# Altium footprint library RLC.PcbLib: 144 footprints (part 7 of 9)
Each footprint in its own frame and in the unit in brackets; x right, y up, seen from the top. Pads: shape width x height; smd on the part's side, far side on the other; paste and mask are expansions set on the pad; w line width, h text height; cw(c..) or ccw(c..) is an arc to the next point about the centre after c.
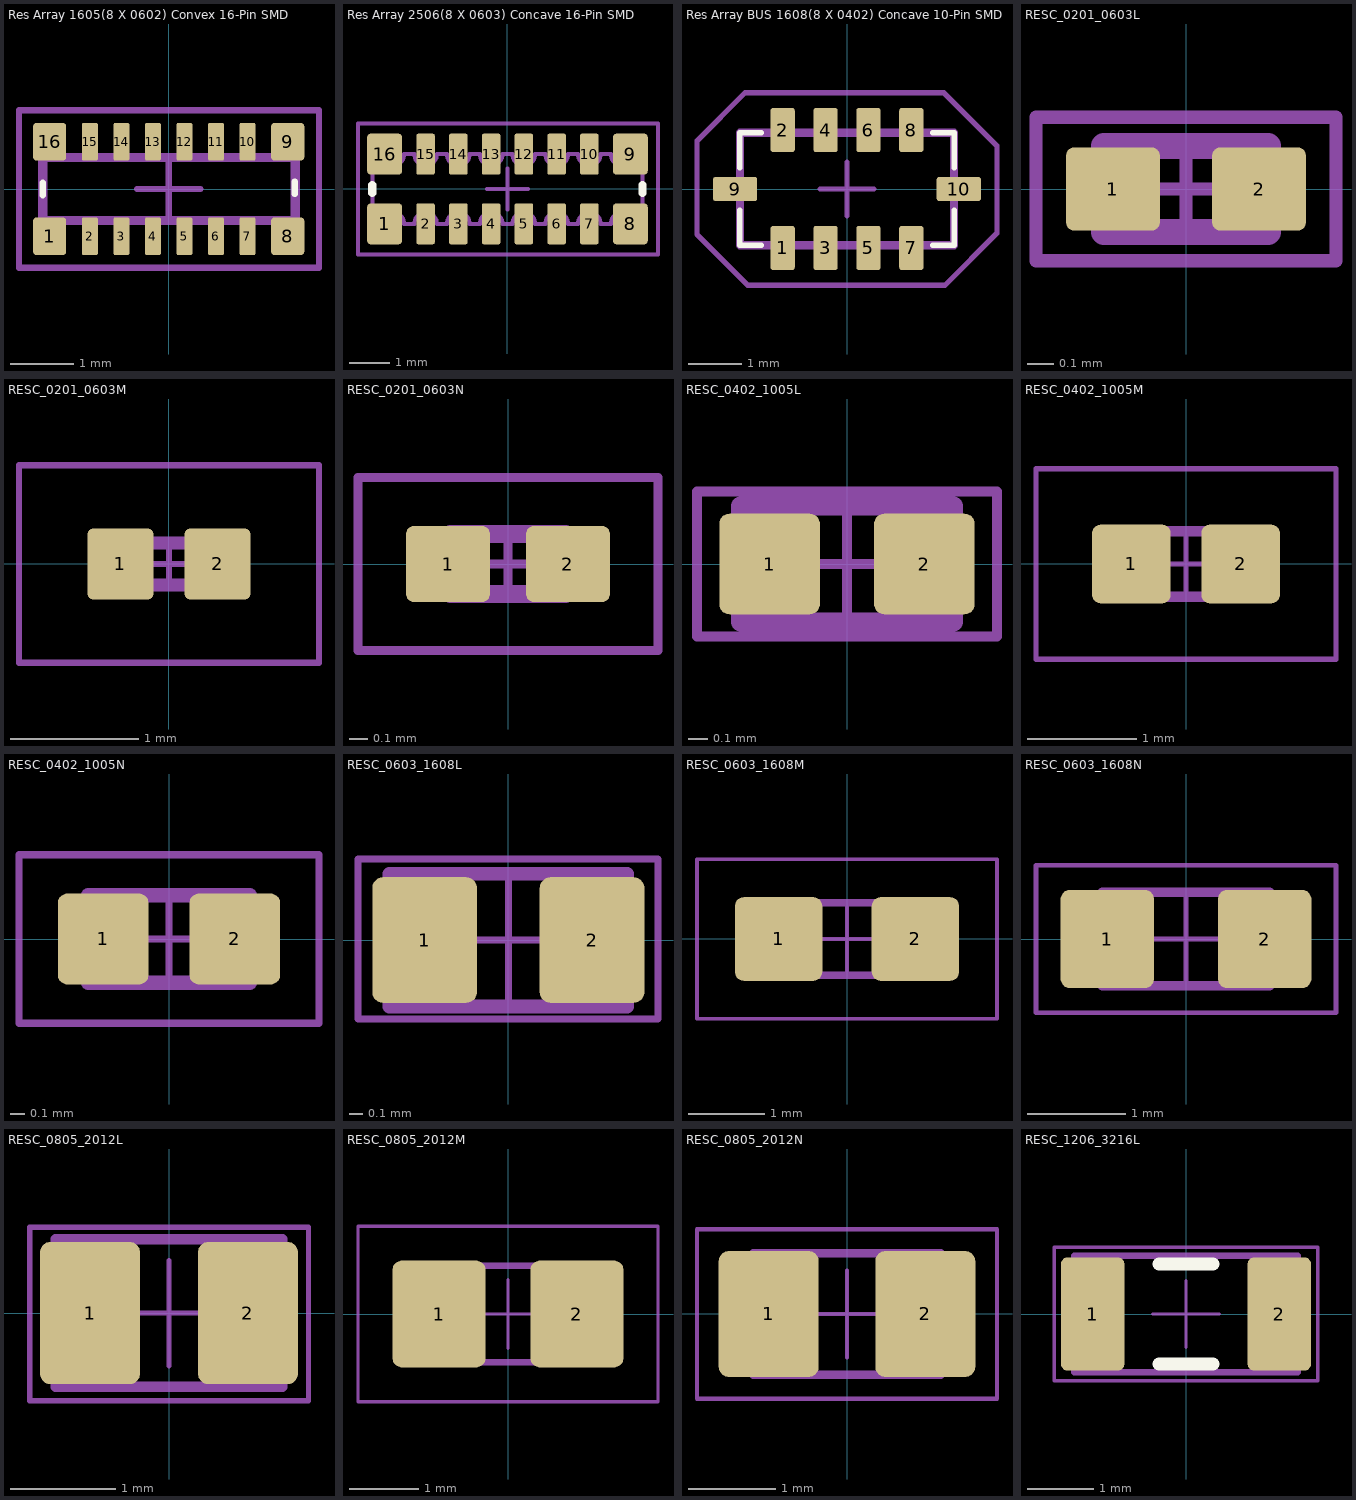
[diagram p6: the footprints below, top view; thin cyan lines are the x and y axes]

## Res Array 1605(8 X 0602) Convex 16-Pin SMD [mm]
pads (16):
  rrect20% 0.525x0.6 smd: 1(-1.888,-0.75) 8(1.888,-0.75) 9(1.888,0.75) 16(-1.888,0.75)
  rrect20% 0.25x0.6 smd: 2(-1.25,-0.75) 3(-0.75,-0.75) 4(-0.25,-0.75) 5(0.25,-0.75) 6(0.75,-0.75) 7(1.25,-0.75) 10(1.25,0.75) 11(0.75,0.75) 12(0.25,0.75) 13(-0.25,0.75) 14(-0.75,0.75) 15(-1.25,0.75)
Top Overlay:
  lines w0.1: -2,-0.1 -2,0.1 ; 1.998,-0.081 1.998,0.119
Top Designator:
  text ".Designator" at -2.749,1.55 h0.6
Top Assembly:
  lines w0.15: -2,-0.5 -2,0.5 2.007,0.5 2.007,-0.5 -2,-0.5
Top Courtyard:
  lines w0.1: -0.5,0 0.5,0 ; 0,-0.5 0,0.5 ; -2.375,-1.25 -2.375,1.25 2.385,1.25 2.385,-1.25 -2.375,-1.25
3D body "EXB-2HV103JV.stp": height 0.55, standoff 0, extent -1.95,-0.9 1.95,0.9

## Res Array 2506(8 X 0603) Concave 16-Pin SMD [mm] "Chip Array, Concave, 16-Leads, Pitch 0,80mm,  Body 4,90x1,60mm,  IPC Medium Density"
height 0.6
pads (16):
  rrect20% 0.85x1 smd: 1(-3,-0.85) 8(3,-0.85) 9(3,0.85) 16(-3,0.85)
  rrect20% 0.45x1 smd: 2(-2,-0.85) 3(-1.2,-0.85) 4(-0.4,-0.85) 5(0.4,-0.85) 6(1.2,-0.85) 7(2,-0.85) 10(2,0.85) 11(1.2,0.85) 12(0.4,0.85) 13(-0.4,0.85) 14(-1.2,0.85) 15(-2,0.85)
Top Overlay:
  lines w0.2: -3.3,-0.1 -3.3,0.1 ; 3.3,-0.1 3.3,0.1
Sheet:
  lines w0.05: -3.65,-1.6 3.675,-1.6 3.675,1.6 -3.65,1.6 -3.65,-1.6
Top Designator:
  text ".Designator" at -2.999,2.05 h0.6
Top Assembly:
  lines w0.1: -3.3,-0.85 -3.075,-0.85 cw(c-2.8,-0.85) -2.525,-0.85 -2.275,-0.85 cw(c-2,-0.85) -1.725,-0.85 -1.475,-0.85 cw(c-1.2,-0.85) -0.925,-0.85 -0.675,-0.85 cw(c-0.4,-0.85) -0.125,-0.85 0.125,-0.85 cw(c0.4,-0.85) 0.675,-0.85 0.925,-0.85 cw(c1.2,-0.85) 1.475,-0.85 1.725,-0.85 cw(c2,-0.85) 2.275,-0.85 2.525,-0.85 cw(c2.8,-0.85) 3.075,-0.85 3.3,-0.85 3.3,0.85 3.075,0.85 cw(c2.8,0.85) 2.525,0.85 2.275,0.85 cw(c2,0.85) 1.725,0.85 1.475,0.85 cw(c1.2,0.85) 0.925,0.85 0.675,0.85 cw(c0.4,0.85) 0.125,0.85 -0.125,0.85 cw(c-0.4,0.85) -0.675,0.85 -0.925,0.85 cw(c-1.2,0.85) -1.475,0.85 -1.725,0.85 cw(c-2,0.85) -2.275,0.85 -2.525,0.85 cw(c-2.8,0.85) -3.075,0.85 -3.3,0.85 -3.3,-0.85
Top Courtyard:
  lines w0.1: -0.5,0 0.5,0 ; 0,-0.5 0,0.5 ; -3.65,-1.6 -3.65,1.6 3.675,1.6 3.675,-1.6 -3.65,-1.6
3D body "CAC-80P489X159-16N.step": height 0.6, standoff 0, extent -3.3,-0.95 3.3,0.95

## Res Array BUS 1608(8 X 0402) Concave 10-Pin SMD [mm]
pads (10):
  rrect20% 0.45x0.825 smd: 1(-1.2,-1.1) 2(-1.2,1.1) 3(-0.4,-1.1) 4(-0.4,1.1) 5(0.4,-1.1) 6(0.4,1.1) 7(1.2,-1.1) 8(1.2,1.1)
  rrect20% 0.825x0.45 smd: 9(-2.088,0) 10(2.087,0)
Top Overlay:
  lines w0.1: -2,-0.4 -2,-1.05 -1.6,-1.05 ; -2,0.4 -2,1.05 -1.6,1.05 ; 1.6,-1.05 2,-1.05 2,-0.4 ; 1.6,1.05 2,1.05 2,0.4
Top Designator:
  text ".Designator" at -3.024,2.2 h0.6
Top Assembly:
  lines w0.15: -2,-1.05 2,-1.05 2,1.05 -2,1.05 -2,-1.05
Top Courtyard:
  lines w0.1: -0.5,0 0.5,0 ; 0,-0.5 0,0.5 ; -2.8,-0.85 -1.85,-1.8 1.825,-1.8 2.8,-0.825 2.8,0.805 1.805,1.8 -1.899,1.8 -2.8,0.899 -2.8,-0.85
3D body "Resnet_Bournes_CAT25 .step": height 0.55, standoff 0, extent -2.012,-1.014 2.009,1.006

## RESC_0201_0603L [mm] "Chip Resistor, Body 0.6x0.3mm, IPC High Density"
height 0.3
pads (2):
  rrect20% 0.36x0.32 smd: 1(-0.28,0) 2(0.28,0)
Top Designator:
  text ".Designator" at -2.899,0.6 h0.6
Top Assembly:
  lines w0.1: -0.315,-0.165 0.315,-0.165 0.315,0.165 -0.315,0.165 -0.315,-0.165
Top Courtyard:
  lines w0.05: -0.165,0 0.165,0 ; 0,-0.165 0,0.165 ; -0.575,-0.275 0.575,-0.275 0.575,0.275 -0.575,0.275 -0.575,-0.275
3D body "rsmd-0201_l0-6_w0-3_h0-25.stp": height 0.25, standoff 0, extent -0.3,-0.15 0.3,0.15

## RESC_0201_0603M [mm] "Chip Resistor, Body 0.6x0.3mm, IPC Low Density"
height 0.3
pads (2):
  rrect20% 0.52x0.56 smd: 1(-0.38,0) 2(0.38,0)
Top Designator:
  text ".Designator" at -2.899,1.1 h0.6
Top Assembly:
  lines w0.1: -0.315,-0.165 0.315,-0.165 0.315,0.165 -0.315,0.165 -0.315,-0.165
Top Courtyard:
  lines w0.05: -0.165,0 0.165,0 ; 0,-0.165 0,0.165 ; -1.175,-0.775 1.175,-0.775 1.175,0.775 -1.175,0.775 -1.175,-0.775
3D body "rsmd-0201_l0-6_w0-3_h0-25.stp": height 0.25, standoff 0, extent -0.3,-0.15 0.3,0.15

## RESC_0201_0603N [mm] "Chip Resistor, Body 0.6x0.3mm, IPC Medium Density"
height 0.3
pads (2):
  rrect20% 0.46x0.42 smd: 1(-0.33,0) 2(0.33,0)
Top Designator:
  text ".Designator" at -2.799,0.8 h0.6
Top Assembly:
  lines w0.1: -0.315,-0.165 -0.315,0.165 0.315,0.165 0.315,-0.165 -0.315,-0.165
Top Courtyard:
  lines w0.05: -0.165,0 0.165,0 ; 0,-0.165 0,0.165 ; -0.825,-0.475 -0.825,0.475 0.825,0.475 0.825,-0.475 -0.825,-0.475
3D body "rsmd-0201_l0-6_w0-3_h0-25.stp": height 0.25, standoff 0, extent -0.3,-0.15 0.3,0.15

## RESC_0402_1005L [mm] "Chip Resistor, Body 1.1x0.5mm, IPC High Density"
height 0.4
pads (2):
  rrect20% 0.52x0.52 smd: 1(-0.4,0) 2(0.4,0)
Top Designator:
  text ".Designator" at -2.799,0.7 h0.6
Top Assembly:
  lines w0.1: -0.55,-0.3 -0.55,0.3 0.55,0.3 0.55,-0.3 -0.55,-0.3
Top Courtyard:
  lines w0.05: -0.3,0 0.3,0 ; 0,-0.3 0,0.3 ; -0.775,-0.375 -0.775,0.375 0.775,0.375 0.775,-0.375 -0.775,-0.375
3D body "Resistor_0402_Text.step": height 0.37, standoff 0.01, extent -0.504,-0.257 0.512,0.251

## RESC_0402_1005M [mm] "Chip Resistor, Body 1.1x0.5mm, IPC Low Density"
height 0.4
pads (2):
  rrect20% 0.72x0.72 smd: 1(-0.5,0) 2(0.5,0)
Top Designator:
  text ".Designator" at -2.799,1.2 h0.6
Top Assembly:
  lines w0.1: -0.55,-0.3 0.55,-0.3 0.55,0.3 -0.55,0.3 -0.55,-0.3
Top Courtyard:
  lines w0.05: -0.3,0 0.3,0 ; 0,-0.3 0,0.3 ; -1.375,-0.875 1.375,-0.875 1.375,0.875 -1.375,0.875 -1.375,-0.875
3D body "Resistor_0402_Text.step": height 0.37, standoff 0.01, extent -0.51,-0.261 0.506,0.247

## RESC_0402_1005N [mm] "Chip Resistor, Body 1.1x0.5mm, IPC Medium Density"
height 0.4
pads (2):
  rrect20% 0.62x0.62 smd: 1(-0.45,0) 2(0.45,0)
Top Designator:
  text ".Designator" at -2.799,0.9 h0.6
Top Assembly:
  lines w0.1: -0.55,-0.3 0.55,-0.3 0.55,0.3 -0.55,0.3 -0.55,-0.3
Top Courtyard:
  lines w0.05: -0.3,0 0.3,0 ; 0,-0.3 0,0.3 ; -1.025,-0.575 1.025,-0.575 1.025,0.575 -1.025,0.575 -1.025,-0.575
3D body "Resistor_0402_Text.step": height 0.37, standoff 0.01, extent -0.502,-0.262 0.514,0.246

## RESC_0603_1608L [mm] "Chip Resistor, Body 1.6x0.8mm, IPC High Density"
height 0.6
pads (2):
  rrect20% 0.75x0.9 smd: 1(-0.6,0) 2(0.6,0)
Top Designator:
  text ".Designator" at -2.899,0.9 h0.6
Top Assembly:
  lines w0.1: -0.85,-0.475 0.85,-0.475 0.85,0.475 -0.85,0.475 -0.85,-0.475
Top Courtyard:
  lines w0.05: -0.475,0 0.475,0 ; 0,-0.475 0,0.475 ; -1.077,-0.568 1.073,-0.568 1.073,0.582 -1.077,0.582 -1.077,-0.568
3D body "Resistor_0603_Text.step": height 0.47, standoff 0.01, extent -0.8,-0.4 0.8,0.4

## RESC_0603_1608M [mm] "Chip Resistor, Body 1.6x0.8mm, IPC Low Density"
height 0.6
pads (2):
  rrect20% 1.15x1.1 smd: 1(-0.9,0) 2(0.9,0)
Top Designator:
  text ".Designator" at -2.899,0.9 h0.6
Top Assembly:
  lines w0.1: -0.85,-0.475 0.85,-0.475 0.85,0.475 -0.85,0.475 -0.85,-0.475
Top Courtyard:
  lines w0.05: -0.475,0 0.475,0 ; 0,-0.475 0,0.475 ; -1.975,-1.05 1.975,-1.05 1.975,1.05 -1.975,1.05 -1.975,-1.05
3D body "Resistor_0603_Text.step": height 0.47, standoff 0.01, extent -0.805,-0.404 0.795,0.396

## RESC_0603_1608N [mm] "Chip Resistor, Body 1.6x0.8mm, IPC Medium Density"
height 0.6
pads (2):
  rrect20% 0.95x1 smd: 1(-0.8,0) 2(0.8,0)
Top Designator:
  text ".Designator" at -2.899,0.9 h0.6
Top Assembly:
  lines w0.1: -0.85,-0.475 0.85,-0.475 0.85,0.475 -0.85,0.475 -0.85,-0.475
Top Courtyard:
  lines w0.05: -0.475,0 0.475,0 ; 0,-0.475 0,0.475 ; -1.525,-0.75 1.525,-0.75 1.525,0.75 -1.525,0.75 -1.525,-0.75
3D body "Resistor_0603_Text.step": height 0.47, standoff 0.01, extent -0.806,-0.4 0.794,0.4

## RESC_0805_2012L [mm] "Chip Resistor, Body 2.0x1.3mm, IPC High Density"
height 0.65
pads (2):
  rrect20% 0.95x1.35 smd: 1(-0.75,0) 2(0.75,0)
Top Designator:
  text ".Designator" at -2.899,1.1 h0.6
Top Assembly:
  lines w0.1: -1.075,-0.7 -1.075,0.7 1.075,0.7 1.075,-0.7 -1.075,-0.7
Top Courtyard:
  lines w0.05: -0.5,0 0.5,0 ; 0,-0.5 0,0.5 ; -1.324,-0.834 -1.324,0.816 1.326,0.816 1.326,-0.834 -1.324,-0.834
3D body "Resistor_0805_Text.step": height 0.52, standoff 0.01, extent -1,-0.625 1,0.625

## RESC_0805_2012M [mm] "Chip Resistor, Body 2.0x1.3mm, IPC Low Density"
height 0.65
pads (2):
  rrect20% 1.35x1.55 smd: 1(-1,0) 2(1,0)
Top Designator:
  text ".Designator" at -2.899,1.1 h0.6
Top Assembly:
  lines w0.1: -1.075,-0.7 1.075,-0.7 1.075,0.7 -1.075,0.7 -1.075,-0.7
Top Courtyard:
  lines w0.05: -0.5,0 0.5,0 ; 0,-0.5 0,0.5 ; -2.175,-1.275 2.175,-1.275 2.175,1.275 -2.175,1.275 -2.175,-1.275
3D body "Resistor_0805_Text.step": height 0.52, standoff 0.01, extent -1.004,-0.625 0.996,0.625

## RESC_0805_2012N [mm] "Chip Resistor, Body 2.0x1.3mm, IPC Medium Density"
height 0.65
pads (2):
  rrect20% 1.15x1.45 smd: 1(-0.9,0) 2(0.9,0)
Top Designator:
  text ".Designator" at -2.899,1.1 h0.6
Top Assembly:
  lines w0.1: -1.075,-0.7 1.075,-0.7 1.075,0.7 -1.075,0.7 -1.075,-0.7
Top Courtyard:
  lines w0.05: -0.5,0 0.5,0 ; 0,-0.5 0,0.5 ; -1.725,-0.975 1.725,-0.975 1.725,0.975 -1.725,0.975 -1.725,-0.975
3D body "Resistor_0805_Text.step": height 0.52, standoff 0.01, extent -0.998,-0.634 1.002,0.616

## RESC_1206_3216L [mm] "Chip Resistor, Body 3.2x1.6mm, IPC High Density"
height 0.71
pads (2):
  rrect20% 0.95x1.7 smd: 1(-1.4,0) 2(1.4,0)
Top Overlay:
  lines w0.2: -0.4,-0.75 0.4,-0.75 ; -0.4,0.75 0.4,0.75
Top Designator:
  text ".Designator" at -2.899,1.4 h0.6
Top Assembly:
  lines w0.1: -1.675,-0.875 1.675,-0.875 1.675,0.875 -1.675,0.875 -1.675,-0.875
Top Courtyard:
  lines w0.05: -0.5,0 0.5,0 ; 0,-0.5 0,0.5 ; -1.975,-1 1.975,-1 1.975,1 -1.975,1 -1.975,-1
3D body "Resistor_1206_Text.step": height 0.62, standoff 0.01, extent -1.6,-0.8 1.6,0.8